# EAGLE library part 87833-08 (library con-molex-milli-grid)
HEADER
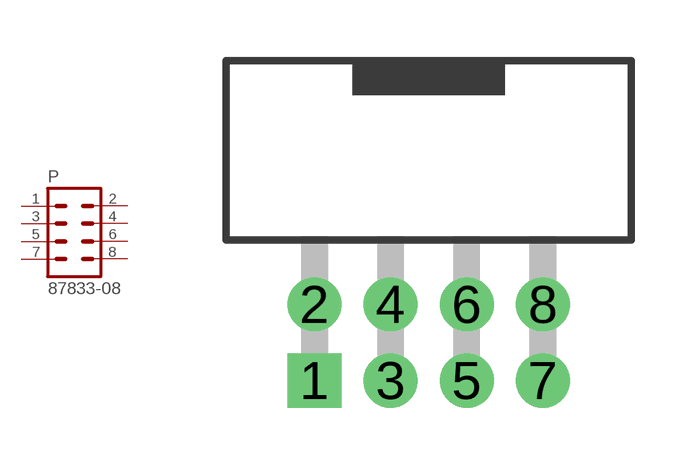
[diagram p89: symbol with the pads of 87833-08; footprint 87833-08]

Designator prefix P

## 87833-08  [87833-08]
1  1  pas
2  2  pas
3  3  pas
4  4  pas
5  5  pas
6  6  pas
7  7  pas
8  8  pas

## Footprint 87833-08 (pad centres in mm)
HEADER Dual Row, Shrouded, Right Angle
drill 0.914 square: 1 -3,-1
drill 0.914: 2 -3,1; 3 -1,-1; 4 -1,1; 5 1,-1; 6 1,1; 7 3,-1; 8 3,1